# Altium footprint library Keys.PcbLib: 3 footprints
Each footprint in its own frame and in the unit in brackets; x right, y up, seen from the top. Pads: shape width x height; smd on the part's side, far side on the other; paste and mask are expansions set on the pad; w line width, h text height; cw(c..) or ccw(c..) is an arc to the next point about the centre after c.
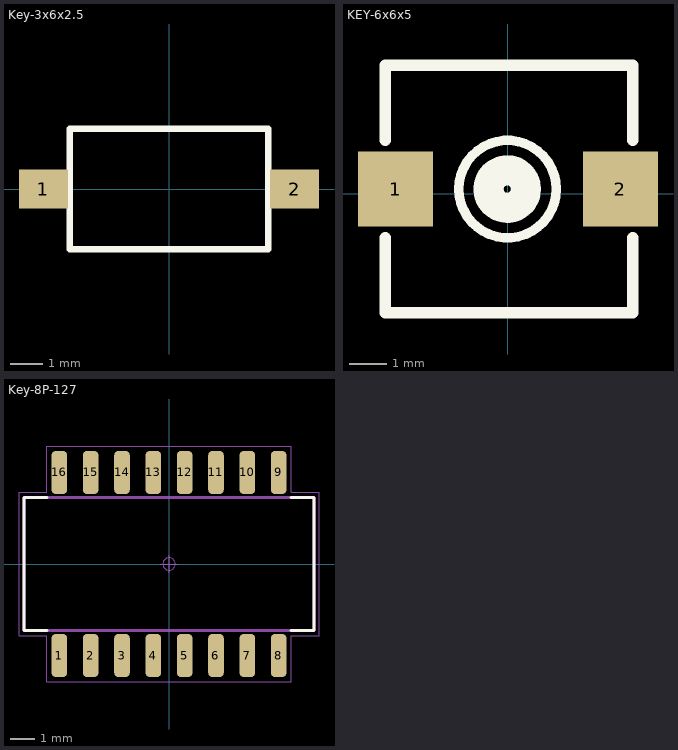
[diagram p0: the footprints below, top view; thin cyan lines are the x and y axes]

## Key-3x6x2.5 [mm]
pads (2):
  rect 1.5x1.2 smd: 1(-3.85,0) 2(3.85,0)
Top Overlay:
  lines w0.2: -3.05,-1.85 3.05,-1.85 3.05,1.85 -3.05,1.85 -3.05,-1.85

## KEY-6x6x5 [mm]
pads (2):
  rect 2x2 smd mask+0.05: 1(-3,0.127) 2(3,0.127)
Top Overlay:
  circle w0.8: c-0.02,0.127 r0.5
  circle w0.254: c-0.013,0.127 r1.3
  lines w0.305: -3.275,-1.17 -3.275,-3.171 3.325,-3.171 3.325,-1.17 ; -3.275,1.424 -3.275,3.429 3.325,3.429 3.325,1.424

## Key-8P-127 [mm]
pads (16):
  rrect51% 0.63x1.74 smd: 1(-4.445,-3.71) 2(-3.175,-3.71) 3(-1.905,-3.71) 4(-0.635,-3.71) 5(0.635,-3.71) 6(1.905,-3.71) 7(3.175,-3.71) 8(4.445,-3.71) 9(4.445,3.71) 10(3.175,3.71) 11(1.905,3.71) 12(0.635,3.71) 13(-0.635,3.71) 14(-1.905,3.71) 15(-3.175,3.71) 16(-4.445,3.71)
Top Overlay:
  lines w0.12: -4.94,-2.7 -5.88,-2.7 -5.88,2.7 -4.94,2.7 ; 4.94,-2.7 5.88,-2.7 5.88,2.7 4.94,2.7
Mechanical 11:
  lines w0.12: -5.88,-2.7 5.88,-2.7 5.88,2.7 -5.88,2.7 -5.88,-2.7
Mechanical 12:
  lines w0.025: -5.88,-2.7 5.88,-2.7 5.88,2.7 -5.88,2.7 -5.88,-2.7 ; -4.645,-4.175 -4.645,-3.345 -4.245,-3.345 -4.245,-4.175 -4.645,-4.175 ; -4.645,3.345 -4.645,4.175 -4.245,4.175 -4.245,3.345 -4.645,3.345 ; -3.375,-4.175 -3.375,-3.345 -2.975,-3.345 -2.975,-4.175 -3.375,-4.175 ; -3.375,3.345 -3.375,4.175 -2.975,4.175 -2.975,3.345 -3.375,3.345 ; -2.105,-4.175 -2.105,-3.345 -1.705,-3.345 -1.705,-4.175 -2.105,-4.175 ; -2.105,3.345 -2.105,4.175 -1.705,4.175 -1.705,3.345 -2.105,3.345 ; -0.835,-4.175 -0.835,-3.345 -0.435,-3.345 -0.435,-4.175 -0.835,-4.175 ; -0.835,3.345 -0.835,4.175 -0.435,4.175 -0.435,3.345 -0.835,3.345 ; 0.435,-4.175 0.435,-3.345 0.835,-3.345 0.835,-4.175 0.435,-4.175 ; 0.435,3.345 0.435,4.175 0.835,4.175 0.835,3.345 0.435,3.345 ; 1.705,-4.175 1.705,-3.345 2.105,-3.345 2.105,-4.175 1.705,-4.175 ; 1.705,3.345 1.705,4.175 2.105,4.175 2.105,3.345 1.705,3.345 ; 2.975,-4.175 2.975,-3.345 3.375,-3.345 3.375,-4.175 2.975,-4.175 ; 2.975,3.345 2.975,4.175 3.375,4.175 3.375,3.345 2.975,3.345 ; 4.245,-4.175 4.245,-3.345 4.645,-3.345 4.645,-4.175 4.245,-4.175 ; 4.245,3.345 4.245,4.175 4.645,4.175 4.645,3.345 4.245,3.345
Mechanical 15:
  circle w0.05: c0,0 r0.25
  lines w0.05: -0.35,0 0.35,0 ; 0,-0.35 0,0.35 ; -6.08,-2.9 -4.96,-2.9 -4.96,-4.78 4.96,-4.78 4.96,-2.9 6.08,-2.9 6.08,2.9 4.96,2.9 4.96,4.78 -4.96,4.78 -4.96,2.9 -6.08,2.9 -6.08,-2.9
Mechanical 16:
  text ".Designator" at 0,0 h1.2